# EAGLE library part AMC1311-Q1 (library Filtering)
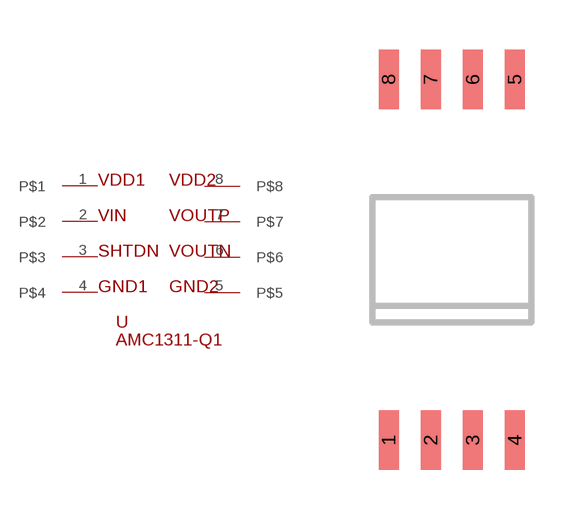
[diagram p0: symbol with the pads of SOIC8; footprint SOIC8]

Designator prefix -

## AMC1311-Q1  [SOIC8]
1  P$1
2  P$2
3  P$3
4  P$4
5  P$5
6  P$6
7  P$7
8  P$8

## Footprint SOIC8 (pad centres in mm)
smd 0.6 x 1.8: 1 -1.905,-5.45; 2 -0.635,-5.45; 3 0.635,-5.45; 4 1.905,-5.45; 5 1.905,5.45; 6 0.635,5.45; 7 -0.635,5.45; 8 -1.905,5.45